# EAGLE library part AT24C06 (library THU VIEN MOI)
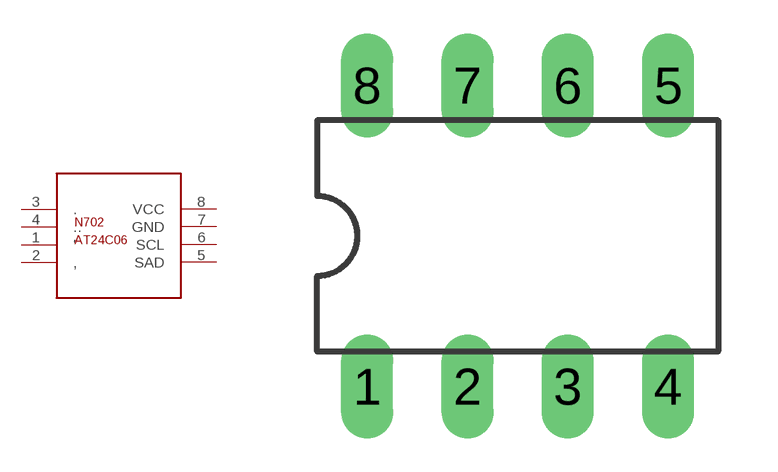
[diagram p3: symbol with the pads of AT24C06; footprint AT24C06]

Designator prefix -

## AT24C06H  [AT24C06]
1  '
2  ,
3  .
4  ..
5  SAD
6  SCL
7  GND
8  VCC

## Footprint AT24C06 (pad centres in mm)
drill 0.813 long: 1 -7.62,-1.27; 2 -5.08,-1.27; 3 -2.54,-1.27; 4 0,-1.27; 5 0,6.35; 6 -2.54,6.35; 7 -5.08,6.35; 8 -7.62,6.35